# EAGLE library part RELALY-6S (library chuong)
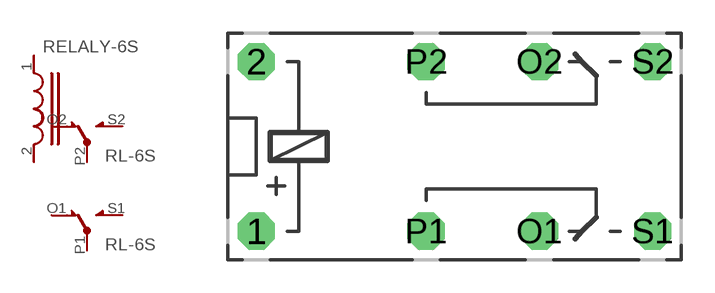
[diagram p86: symbol with the pads of RELAY-6S; footprint RELAY-6S]

Designator prefix RL-6S; gates K=RELAY-6S G$2=RELAY-6S RL=COIL-RELAY

## RELALY-6S  [RELAY-6S]
1  RL:1
2  RL:2
O1  G$2:O  pas
O2  K:O  pas
P1  G$2:P  pas
P2  K:P  pas
S1  G$2:S  pas
S2  K:S  pas

## Footprint RELAY-6S (pad centres in mm)
drill 0.61 pad 1.676 octagon: 1 -10.16,-3.81; 2 -10.16,3.81; O1 2.54,-3.81; O2 2.54,3.81; P1 -2.54,-3.81; P2 -2.54,3.81; S1 7.62,-3.81; S2 7.62,3.81